# EAGLE library part UBLOX_PAM-7Q (library m_module)
PAM-7Q u-blox 7 GPS Antenna Module Description The u-blox PAM-7Q patch antenna module has the exceptional performance of the u-blox 7 GNSS engine and delivers high sensitivity and minimal acquisition times in an industry proven form factor. Incorporating the PAM-7Q into customer designs is simple and straightforward, thanks to the embedded antenna, low power consumption, simple interface, and sophisticated interference suppression that ensures maximum performance even in GPS- hostile environments. The 18 x 18 mm patch antenna of PAM-7Q provides RHCP polarization, which is not achievable with smaller patch antenna elements. The simple design and easy interfacing keeps installation costs to a minimum. PAM-7Q targets industrial and consumer applications that require small and cost efficient smart antenna solutions. It is form factor compatible with UP501 module, allowing the upgrade of existing designs with minimal effort. PAM-7Q modules use GPS chips qualified according to AEC-Q100 and are manufactured in ISO/TS 16949 certified sites. Qualification tests are performed as stipulated in the ISO16750 standard: “Road vehicles – Environmental conditions and testing for electrical and electronic equipment”. Highlights Embedded GPS antenna Excellent antenna performance Low power consumption Form-factor compatible with UP501 Easy integration into design Specifications Features Receiver type 56-channel u-blox 7 engine GPS/ QZSS L1 C/A SBAS: WAAS, EGNOS, MSAS Navigation update rate up to 10 Hz Accuracy Position: 2.5m CEP SBAS: 2.0m CEP Acquisition Cold starts: 29s Aided starts: 5s Reacquisition: 1s Sensitivity Tracking & Nav: -161 dBm Cold starts: -147 dBm Warm starts: -147 dBm Assistance GPS AssistNow Online AssistNow Offline AssistNow Autonomous OMA SUPL & 3GPP compliant Oscillator TCXO RTC crystal Built-in Anti jamming Active CW detection and removal, onboard SAW band pass filter Memory Onboard ROM Electrical data Supply voltage 2.7V to 3.6V Digital I/O voltage level 2.7V to 3.6V Power Consumption 22 mA @ 3V (Continuous) Backup Supply 1.4V to 3.6V Octopart search <https://octopart.com/search?q=PAM-7Q*> Added 2017-05-16
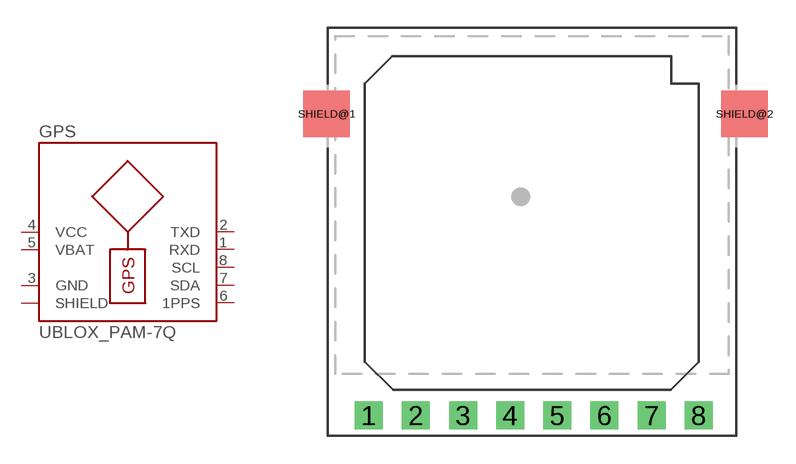
[diagram p7: symbol with the pads of UBLOX_PAM-7Q; footprint UBLOX_PAM-7Q]

Designator prefix GPS

## UBLOX_PAM-7Q (MANUF: ublox; PARTNUM: PAM-7Q*; VALUE: PAM-7Q)  [UBLOX_PAM-7Q]
1  RXD  pas
2  TXD  pas
3  GND  pas
4  VCC  pas
5  VBAT  pas
6  1PPS  pas
7  SDA  pas
8  SCL  pas
SHIELD@1  SHIELD  pas
SHIELD@2  SHIELD  pas

## Footprint UBLOX_PAM-7Q (pad centres in mm)
ublox PAM-7Q GPS Module with Antenna Data based on ublox Hardware Integration Manual UBX-13003143 - R05
drill 1 square: 1 -8.79,-9.9; 2 -6.25,-9.9; 3 -3.71,-9.9; 4 -1.17,-9.9; 5 1.37,-9.9; 6 3.91,-9.9; 7 6.45,-9.9; 8 8.99,-9.9
smd 2.5 x 2.5: SHIELD@1 -11.06,6.35; SHIELD@2 11.45,6.35